# Altium footprint library PI3323.PcbLib: 6 footprints
Each footprint in its own frame and in the unit in brackets; x right, y up, seen from the top. Pads: shape width x height; smd on the part's side, far side on the other; paste and mask are expansions set on the pad; w line width, h text height; cw(c..) or ccw(c..) is an arc to the next point about the centre after c.
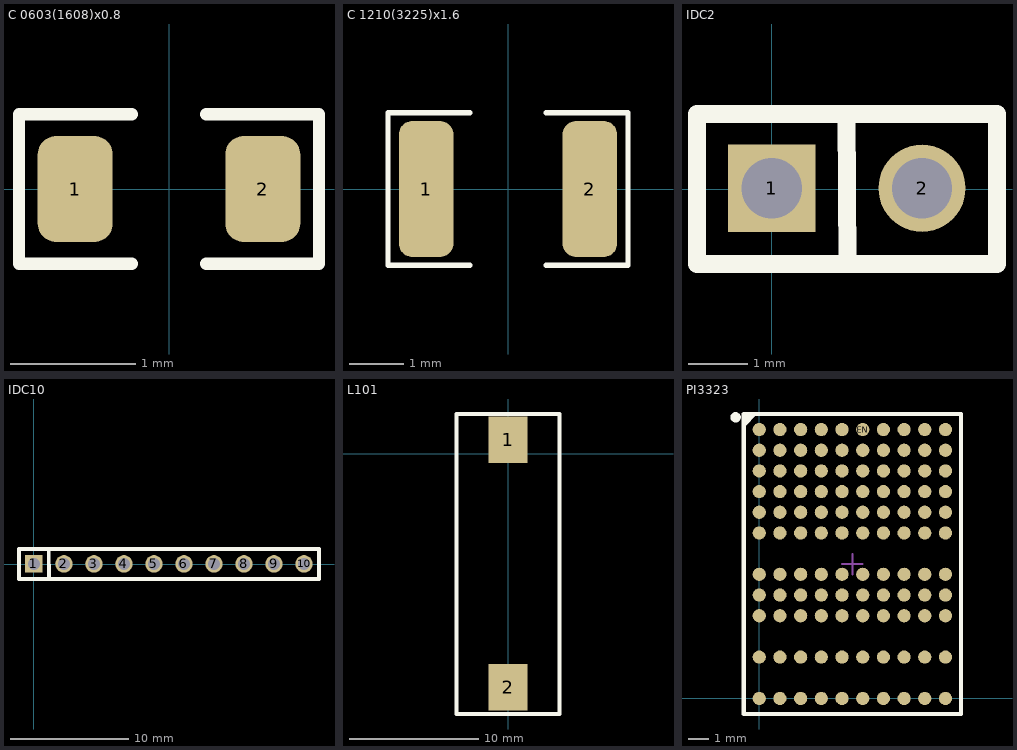
[diagram p0: the footprints below, top view; thin cyan lines are the x and y axes]

## C 0603(1608)x0.8 [mm]
height 0.8
pads (2):
  rrect50% 0.6x0.85 smd: 1(-0.75,0) 2(0.75,0)
Top Overlay:
  lines w0.1: -0.3,-0.6 -1.2,-0.6 -1.2,0.6 -0.3,0.6 ; 0.3,-0.6 1.2,-0.6 1.2,0.6 0.3,0.6
3D body "Cap 0603(1608)x80N.STEP": height 0.81, standoff 0, extent -0.8,-0.4 0.8,0.4

## C 1210(3225)x1.6 [mm]
height 1.6
pads (2):
  rrect50% 1x2.5 smd: 1(-1.5,0) 2(1.5,0)
Top Overlay:
  lines w0.1: -0.7,-1.4 -2.2,-1.4 -2.2,1.4 -0.7,1.4 ; 0.7,-1.4 2.2,-1.4 2.2,1.4 0.7,1.4
3D body "Cap 1210(3225)x160N.STEP": height 1.61, standoff 0, extent -1.6,-1.25 1.6,1.25

## IDC2 [mil]
height 49.21
pads (2):
  rect 58x58 hole 40: 1(0.1,0.52)
  round 58 hole 40: 2(100.1,0.52)
Top Overlay:
  lines w12: 50,50 50.4,-50 ; -49.6,-50 -49.6,50 150,50 150,-50 -49.6,-50

## IDC10 [mil]
height 49.21
pads (10):
  rect 58x58 hole 40: 1(0.1,0.52)
  round 58 hole 40: 2(100.1,0.52) 3(200.1,0.52) 4(300.1,0.52) 5(400.1,0.52) 6(500.1,0.52) 7(600.1,0.52) 8(700.1,0.52) 9(800.1,0.52) 10(900.1,0.52)
Top Overlay:
  lines w12: 50,50 50.4,-50 ; -49.6,-50 -49.6,50 950,50 950,-50 -49.6,-50

## L101 [mm]
height 0.8
pads (2):
  rect 3x3.6 smd: 1(0,1.067) 2(0,-18.133)
Top Overlay:
  lines w0.3: -4,-20.193 -4,3.067 4,3.067 4,-20.193 -4,-20.193

## PI3323 [mm] "BGA110"
height 1.2
pads (110):
  round 0.64 smd: COMP(1,13) EAIN(0,12) EAO(0,13) EN(5,13) PGND(0,2) PGND(1,2) PGND(1,9) PGND(2,2) PGND(2,8) PGND(2,9) PGND(2,10) PGND(3,2) PGND(3,8) PGND(3,9) PGND(3,10) PGND(4,2) PGND(4,8) PGND(4,9) PGND(4,10) PGND(5,2) PGND(5,8) PGND(5,9) PGND(5,10) PGND(5,11) PGND(5,12) PGND(6,2) PGND(6,8) PGND(6,9) PGND(6,10) PGND(6,11) PGND(6,12) PGND(7,2) PGND(7,8) PGND(7,9) PGND(7,10) PGND(7,11) PGND(7,12) PGND(8,2) PGND(8,8) PGND(8,9) PGND(8,10) PGND(8,11) PGND(8,12) PGND(9,2) PGND(9,8) PWRGD(6,13) SGND(1,10) SGND(1,11) SGND(1,12) SGND(2,11) SGND(2,12) SGND(3,11) SGND(3,12) SGND(3,13) SGND(4,11) SGND(4,12) SYNCI(9,10) SYNCO(9,11) TEST(4,13) TEST(7,13) TEST(8,13) TEST(9,12) TEST(9,13) TRK(2,13) VDIFF(0,11) VDR(9,9) VIN(0,4) VIN(0,5) VIN(0,6) VIN(1,4) VIN(1,5) VIN(1,6) VIN(2,4) VIN(2,5) VIN(2,6) VIN(3,4) VIN(3,5) VIN(3,6) VIN(4,4) VIN(4,5) VIN(4,6) VIN(5,4) VIN(5,5) VIN(5,6) VIN(6,4) VIN(6,5) VIN(6,6) VIN(7,4) VIN(7,5) VIN(7,6) VIN(8,4) VIN(8,5) VIN(8,6) VIN(9,4) VIN(9,5) VIN(9,6) VOUT(0,8) VOUT(1,8) VS1(0,0) VS1(1,0) VS1(2,0) VS1(3,0) VS1(4,0) VS1(5,0) VS1(6,0) VS1(7,0) VS1(8,0) VS1(9,0) VSN(0,10) VSP(0,9)
Top Overlay:
  circle w0.25: c-1.143,13.589 r0.125
  region: -0.093,13.75 -0.699,13.144 -0.699,13.75
  lines w0.2: -0.75,-0.75 9.75,-0.75 9.75,13.75 -0.75,13.75 -0.75,-0.75
Mechanical 13:
  lines w0.1: -0.757,-0.75 -0.757,13.75 9.75,13.75 9.75,-0.75 -0.757,-0.75
Mechanical 15:
  lines w0.05: -0.755,-0.75 -0.755,13.75 9.75,13.75 9.75,-0.75 -0.755,-0.75
  lines w0.1: 4,6.5 5,6.5 ; 4.5,5.985 4.5,6.985
3D body: height 1.2, standoff 0, extent -0.758,-0.75 9.75,13.75